# EAGLE library part TCS9208 (library TCS9208)
The TCS9208 step-up switching regulator generates an output voltage of up to 6V from an input voltage as low as 1.6V. Ideal for applications where space is limited, it switches at 1.2MHz, allowing the use of tiny, low cost and low profile external components. Its internal 2A, 100mΩ NMOS switch provides high efficiency even at heavy load, while the constant frequency, current mode architecture results in low, predictable output noise that is easy to filter. Internal frequency compensation is designed to accommodate ceramic output capacitors, further reducing noise. The device features very low shutdown current of 0.5uA. The TCS9208 is available in the 6-lead SOT-23 package.
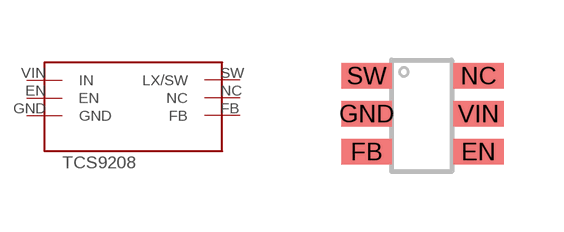
[diagram p0: symbol with the pads of TCS9208; footprint TCS9208]

Designator prefix -

## TCS9208  [TCS9208]
EN  EN
FB  FB
GND  GND
NC  NC
SW  LX/SW
VIN  IN

## Footprint TCS9208 (pad centres in mm)
smd 1.27 x 0.635: EN 4.07,-1.9; FB 1.27,-1.9; GND 1.27,-0.95; NC 4.07,0; SW 1.27,0; VIN 4.07,-0.95